# EAGLE library part 0430451412 (library FSAE Electric)
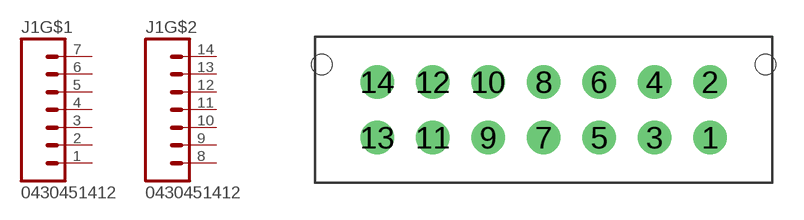
[diagram p59: symbol with the pads of 0430451412; footprint 0430451412]

Designator prefix J1; gates G$1=M7 G$2=M7

## 0430451412 (PARTNO: 0430451412)  [0430451412]
1  G$1:1  pas
2  G$1:2  pas
3  G$1:3  pas
4  G$1:4  pas
5  G$1:5  pas
6  G$1:6  pas
7  G$1:7  pas
8  G$2:1  pas
9  G$2:2  pas
10  G$2:3  pas
11  G$2:4  pas
12  G$2:5  pas
13  G$2:6  pas
14  G$2:7  pas

## Footprint 0430451412 (pad centres in mm)
drill 1.2: 1 9,-1.5; 2 9,1.5; 3 6,-1.5; 4 6,1.5; 5 3,-1.5; 6 3,1.5; 7 0,-1.5; 8 0,1.5; 9 -3,-1.5; 10 -3,1.5; 11 -6,-1.5; 12 -6,1.5; 13 -9,-1.5; 14 -9,1.5
hole 1.1 at -12,2.45
hole 1.1 at 12,2.45